# EAGLE library part MAX4574 (library UROV_Accessories)
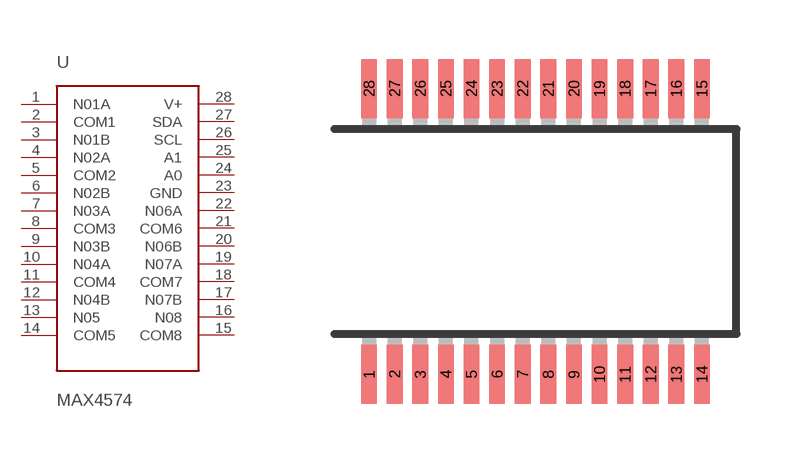
[diagram p0: symbol with the pads of 28-SSOP; footprint 28-SSOP]

Designator prefix -

## MAX4574A  [28-SSOP]
1  N01A
2  COM1
3  N01B
4  N02A
5  COM2
6  N02B
7  N03A
8  COM3
9  N03B
10  N04A
11  COM4
12  N04B
13  N05
14  COM5
15  COM8
16  N08
17  N07B
18  COM7
19  N07A
20  N06B
21  COM6
22  N06A
23  GND
24  A0
25  A1
26  SCL
27  SDA
28  V+

## Footprint 28-SSOP (pad centres in mm)
smd 0.4 x 1.5: 1 -4.225,-3.625; 2 -3.575,-3.625; 3 -2.925,-3.625; 4 -2.275,-3.625; 5 -1.625,-3.625; 6 -0.975,-3.625; 7 -0.325,-3.625; 8 0.325,-3.625; 9 0.975,-3.625; 10 1.625,-3.625; 11 2.275,-3.625; 12 2.925,-3.625; 13 3.575,-3.625; 14 4.225,-3.625; 15 4.225,3.625; 16 3.575,3.625; 17 2.925,3.625; 18 2.275,3.625; 19 1.625,3.625; 20 0.975,3.625; 21 0.325,3.625; 22 -0.325,3.625; 23 -0.975,3.625; 24 -1.625,3.625; 25 -2.275,3.625; 26 -2.925,3.625; 27 -3.575,3.625; 28 -4.225,3.625